# Altium schematic symbol library 3x2.54_Connector.SchLib: 1 symbol
Pins are listed as number, name and electrical type; pins without a type are passive.

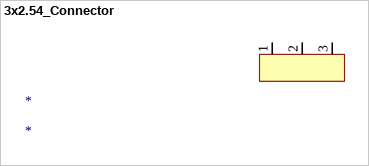
[diagram p0: symbol 3x2.54_Connector]

## 3x2.54_Connector
designator *
footprint 3x2.54_Connector_male
pins: 1, 2, 3